# EAGLE library part PIN6 (library MyLibrary)
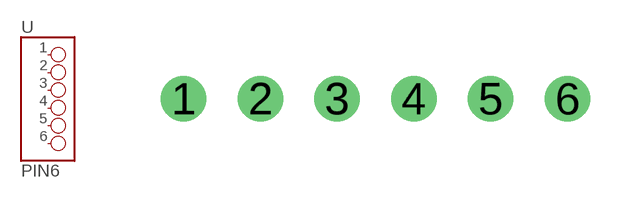
[diagram p15: symbol with the pads of 2.54-6; footprint 2.54-6]

Designator prefix -

## PIN6  [2.54-6]
1  1
2  2
3  3
4  4
5  5
6  6

## Footprint 2.54-6 (pad centres in mm)
drill 1: 1 -6.35,0; 2 -3.81,0; 3 -1.27,0; 4 1.27,0; 5 3.81,0; 6 6.35,0